# Altium footprint library PCB1.PcbLib: 55 footprints (part 1 of 4)
Each footprint in its own frame and in the unit in brackets; x right, y up, seen from the top. Pads: shape width x height; smd on the part's side, far side on the other; paste and mask are expansions set on the pad; w line width, h text height; cw(c..) or ccw(c..) is an arc to the next point about the centre after c.
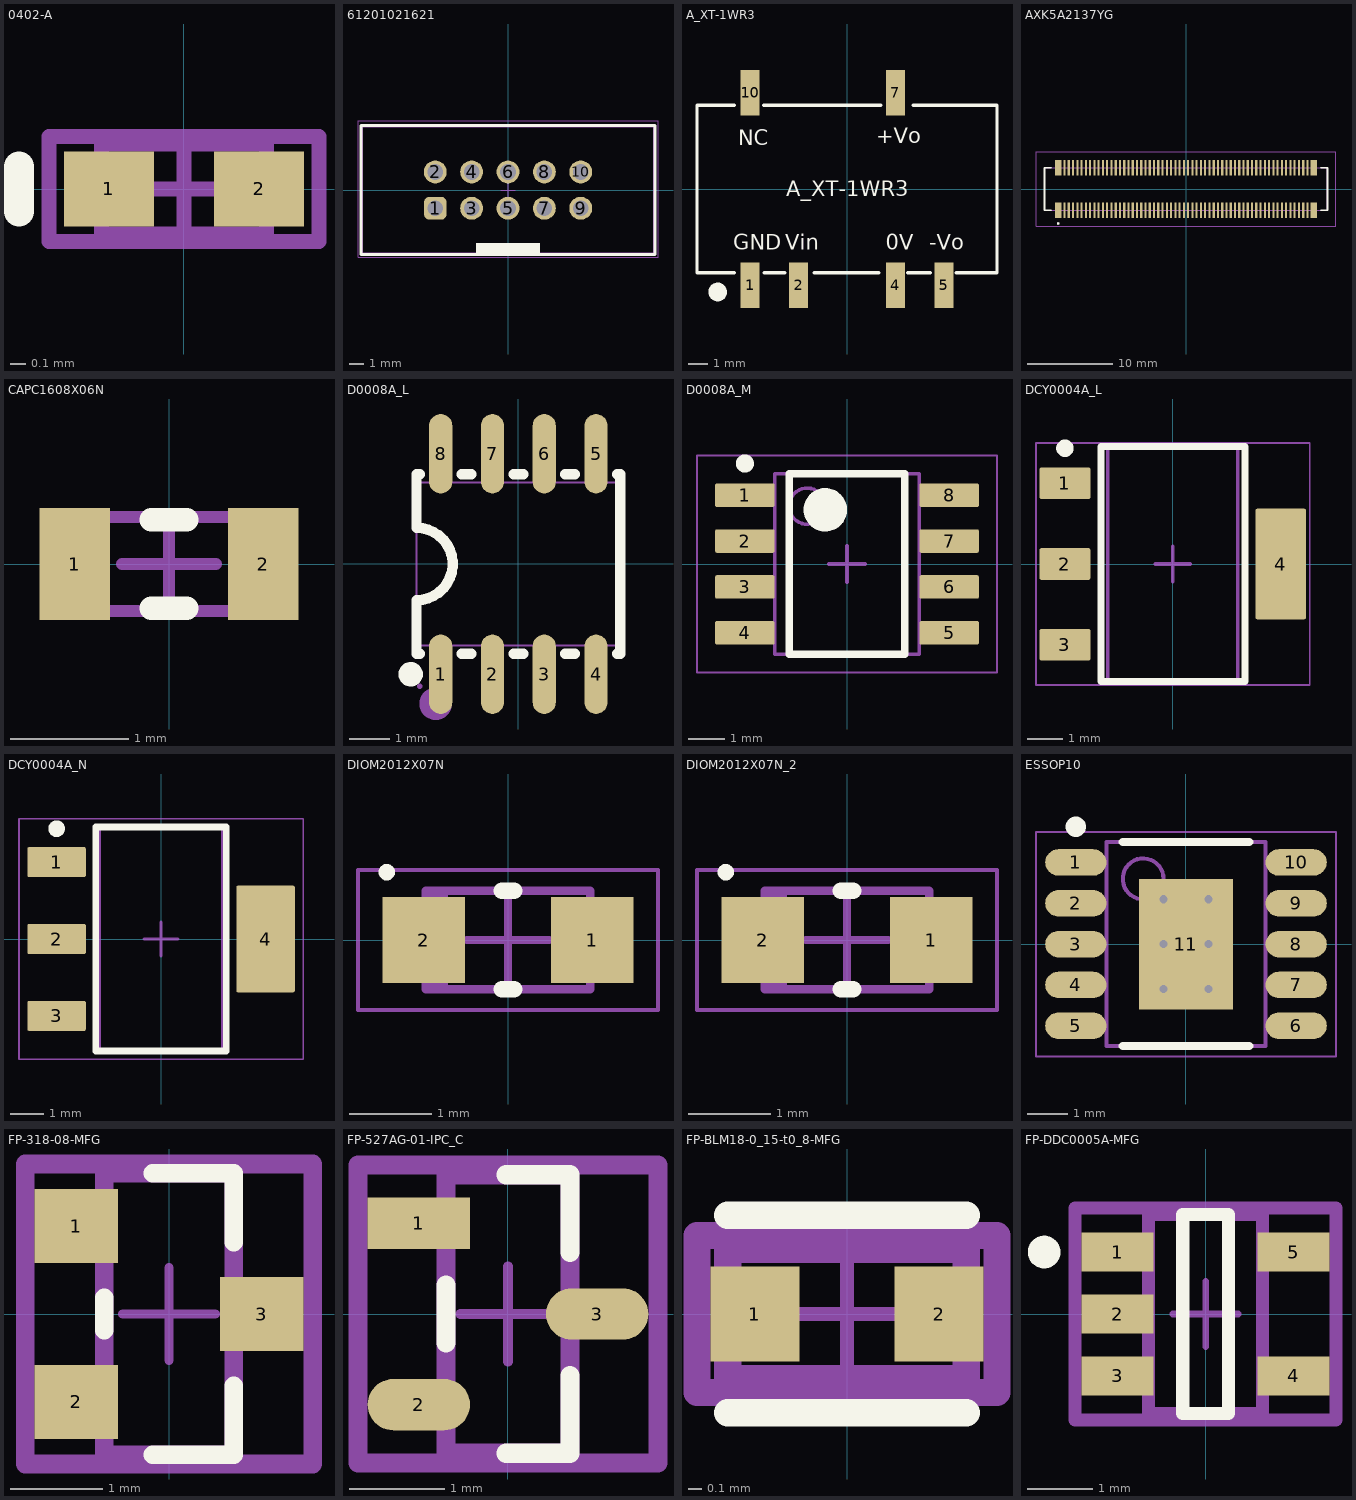
[diagram p0: the footprints below, top view; thin cyan lines are the x and y axes]

## 0402-A [mm] "Chip Inductor, Body 1.0x0.5mm, IPC High Density"
height 0.55
pads (2):
  rect 0.6x0.5 smd: 1(-0.5,0) 2(0.5,0)
Top Overlay:
  lines w0.2: -1.1,-0.15 -1.1,0.15
Mechanical 13:
  lines w0.1: -0.55,-0.3 0.55,-0.3 0.55,0.3 -0.55,0.3 -0.55,-0.3
Mechanical 15:
  lines w0.1: -0.3,0 0.3,0 ; 0,-0.3 0,0.3 ; -0.9,-0.35 0.9,-0.35 0.9,0.35 -0.9,0.35 -0.9,-0.35
3D body: height 0.55, standoff 0, extent -0.55,-0.3 0.55,0.3

## 61201021621 [mm] "10 pins, straight, gold plating"
height 9.1
pads (10):
  rrect50% 1.6x1.6 hole 1.1: 1(-5.08,-1.27)
  round 1.6 hole 1.1: 2(-5.08,1.27) 3(-2.54,-1.27) 4(-2.54,1.27) 5(0,-1.27) 6(0,1.27) 7(2.54,-1.27) 8(2.54,1.27) 9(5.08,-1.27) 10(5.08,1.27)
Top Overlay:
  rectangle: -2.25,-4.5 2.25,-3.7
  lines w0.2: -10.28,-4.5 10.28,-4.5 10.28,4.5 -10.28,4.5 -10.28,-4.5
Top 3D Body:
  rectangle: -2.25,-4.425 2.25,-3.7
  lines w0.1: -10.18,-4.425 10.18,-4.425 10.18,4.425 -10.18,4.425 -10.18,-4.425
Top Courtyard:
  lines w0.05: -0.5,0 0.5,0 ; 0,-0.5 0,0.5 ; -10.48,-4.7 10.48,-4.7 10.48,4.85 -10.48,4.85 -10.48,-4.7
Top Designator:
  text ".Designator" at -7.498,-0.5 h1.5
Top Component Outline:
  rectangle: -2.25,-4.425 2.25,-3.7
  lines w0.1: -10.18,-4.425 -10.18,4.425 10.18,4.425 10.18,-4.425 -10.18,-4.425
3D body "61201021621.stp": height 9.13, standoff -2.98, extent -10.18,-4.425 10.18,4.75

## A_XT-1WR3 [mm]
pads (6):
  rect 1x2.4 smd: 1(-5.08,-5.05) 2(-2.54,-5.05) 4(2.54,-5.05) 5(5.08,-5.05) 7(2.54,5.05) 10(-5.08,5.05)
Top Overlay:
  lines w0.178: -7.87,-4.4 -7.87,4.4 ; -7.827,-4.4 -5.912,-4.4 ; -7.827,4.4 -5.912,4.4 ; -4.369,4.4 1.778,4.4 ; -4.355,-4.4 -3.251,-4.4 ; -1.711,-4.4 1.679,-4.4 ; 3.189,-4.4 4.369,-4.4 ; 3.466,4.4 7.794,4.4 ; 5.724,-4.4 7.87,-4.4 7.87,4.4
  lines w0.508: -6.573,-5.295 ccw(c-6.785,-5.401) -6.549,-5.378
  text "NC" at -5.715,2.286 h0.8
  text "+Vo" at 1.524,2.413 h0.8
  text "-Vo" at 4.318,-3.175 h0.8
  text "0V" at 2.032,-3.175 h0.8
  text "GND" at -5.969,-3.175 h0.8
  text "Vin" at -3.251,-3.175 h0.8
  text "A_XT-1WR3" at -3.175,-0.381 h0.8

## AXK5A2137YG [mm]
pads (120):
  rect 0.75x1.8 smd: 1(-15,-2.5) 2(-15,2.5) 119(15,-2.5) 120(15,2.5)
  rect 0.25x1.8 smd: 3(-14.25,-2.5) 4(-14.25,2.5) 5(-13.75,-2.5) 6(-13.75,2.5) 7(-13.25,-2.5) 8(-13.25,2.5) 9(-12.75,-2.5) 10(-12.75,2.5) 11(-12.25,-2.5) 12(-12.25,2.5) 13(-11.75,-2.5) 14(-11.75,2.5) 15(-11.25,-2.5) 16(-11.25,2.5) 17(-10.75,-2.5) 18(-10.75,2.5) 19(-10.25,-2.5) 20(-10.25,2.5) 21(-9.75,-2.5) 22(-9.75,2.5) 23(-9.25,-2.5) 24(-9.25,2.5) 25(-8.75,-2.5) 26(-8.75,2.5) 27(-8.25,-2.5) 28(-8.25,2.5) 29(-7.75,-2.5) 30(-7.75,2.5) 31(-7.25,-2.5) 32(-7.25,2.5) 33(-6.75,-2.5) 34(-6.75,2.5) 35(-6.25,-2.5) 36(-6.25,2.5) 37(-5.75,-2.5) 38(-5.75,2.5) 39(-5.25,-2.5) 40(-5.25,2.5) 41(-4.75,-2.5) 42(-4.75,2.5) 43(-4.25,-2.5) 44(-4.25,2.5) 45(-3.75,-2.5) 46(-3.75,2.5) 47(-3.25,-2.5) 48(-3.25,2.5) 49(-2.75,-2.5) 50(-2.75,2.5) 51(-2.25,-2.5) 52(-2.25,2.5) 53(-1.75,-2.5) 54(-1.75,2.5) 55(-1.25,-2.5) 56(-1.25,2.5) 57(-0.75,-2.5) 58(-0.75,2.5) 59(-0.25,-2.5) 60(-0.25,2.5) 61(0.25,-2.5) 62(0.25,2.5) 63(0.75,-2.5) 64(0.75,2.5) 65(1.25,-2.5) 66(1.25,2.5) 67(1.75,-2.5) 68(1.75,2.5) 69(2.25,-2.5) 70(2.25,2.5) 71(2.75,-2.5) 72(2.75,2.5) 73(3.25,-2.5) 74(3.25,2.5) 75(3.75,-2.5) 76(3.75,2.5) 77(4.25,-2.5) 78(4.25,2.5) 79(4.75,-2.5) 80(4.75,2.5) 81(5.25,-2.5) 82(5.25,2.5) 83(5.75,-2.5) 84(5.75,2.5) 85(6.25,-2.5) 86(6.25,2.5) 87(6.75,-2.5) 88(6.75,2.5) 89(7.25,-2.5) 90(7.25,2.5) 91(7.75,-2.5) 92(7.75,2.5) 93(8.25,-2.5) 94(8.25,2.5) 95(8.75,-2.5) 96(8.75,2.5) 97(9.25,-2.5) 98(9.25,2.5) 99(9.75,-2.5) 100(9.75,2.5) 101(10.25,-2.5) 102(10.25,2.5) 103(10.75,-2.5) 104(10.75,2.5) 105(11.25,-2.5) 106(11.25,2.5) 107(11.75,-2.5) 108(11.75,2.5) 109(12.25,-2.5) 110(12.25,2.5) 111(12.75,-2.5) 112(12.75,2.5) 113(13.25,-2.5) 114(13.25,2.5) 115(13.75,-2.5) 116(13.75,2.5) 117(14.25,-2.5) 118(14.25,2.5)
Top Overlay:
  lines w0.2: -15.8,-2.5 -16.6,-2.5 -16.6,2.5 -15.8,2.5 ; 15.8,-2.5 16.6,-2.5 16.6,2.5 15.8,2.5 ; -15,-4.1 ccw(c-15,-4.05) -15,-4 ; -15,-4.1 cw(c-15,-4.05) -15,-4 ; -15,-4.1 ccw(c-15,-4.05) -15,-4
Mechanical 15:
  lines w0.1: -16.6,-2.5 -16.6,2.5 16.6,2.5 16.6,-2.5 -16.6,-2.5
Bottom Assembly:
  lines w0.1: -17.6,-4.4 -17.6,4.4 17.6,4.4 17.6,-4.4 -17.6,-4.4

## CAPC1608X06N [mm] "Chip Capacitor, 2-Leads, Body 1.60x0.80mm, IPC Medium Density"
height 0.6
pads (2):
  rect 0.6x0.95 smd: 1(-0.8,0) 2(0.8,0)
Top Overlay:
  lines w0.2: -0.15,-0.375 0.15,-0.375 ; -0.15,0.375 0.15,0.375
Mechanical 13:
  lines w0.1: -0.8,-0.4 0.8,-0.4 0.8,0.4 -0.8,0.4 -0.8,-0.4
Mechanical 15:
  lines w0.1: -0.4,0 0.4,0 ; 0,-0.4 0,0.4
3D body "CAPC1608X06N.step": height 0.6, standoff 0, extent -0.8,-0.4 0.8,0.4

## D0008A_L [mil]
height 100
pads (8):
  oval 22.38x76.78 smd: 1(-75,-106.5) 2(-25,-106.5) 3(25,-106.5) 4(75,-106.5) 5(75,106.5) 6(25,106.5) 7(-25,106.5) 8(-75,106.5)
Top Overlay:
  circle w11.81: c-104,-106.5 r5.91
  lines w10: -98.43,-35 ccw(c-98.41,0) -98.4,35 -98.42,86.61 -95.29,86.61 ; -98.42,-35 -98.42,-86.61 -95.29,-86.61 ; -54.71,-86.61 -45.29,-86.61 ; -54.71,86.61 -45.29,86.61 ; -4.71,-86.61 4.71,-86.61 ; -4.71,86.61 4.71,86.61 ; 45.29,-86.61 54.71,-86.61 ; 45.29,86.61 54.71,86.61 ; 95.29,-86.61 98.42,-86.61 98.42,86.61 95.29,86.61
Bottom Designator:
  circle w15.75: c-80,-135 r7.87
Mechanical 15:
  region: 66.93,76.38 66.93,85.63 83.07,85.63 83.07,76.38
  region: 66.93,85.24 66.93,118.11 83.07,118.11 83.07,85.24
  region: 16.93,76.38 16.93,85.63 33.07,85.63 33.07,76.38
  region: 16.93,85.24 16.93,118.11 33.07,118.11 33.07,85.24
  region: -33.07,76.38 -33.07,85.63 -16.93,85.63 -16.93,76.38
  region: -33.07,85.24 -33.07,118.11 -16.93,118.11 -16.93,85.24
  region: -83.07,76.38 -83.07,85.63 -66.93,85.63 -66.93,76.38
  region: -83.07,85.24 -83.07,118.11 -66.93,118.11 -66.93,85.24
  region: 66.93,-85.63 66.93,-76.38 83.07,-76.38 83.07,-85.63
  region: 66.93,-118.11 66.93,-85.24 83.07,-85.24 83.07,-118.11
  region: 16.93,-85.63 16.93,-76.38 33.07,-76.38 33.07,-85.63
  region: 16.93,-118.11 16.93,-85.24 33.07,-85.24 33.07,-118.11
  region: -33.07,-85.63 -33.07,-76.38 -16.93,-76.38 -16.93,-85.63
  region: -33.07,-118.11 -33.07,-85.24 -16.93,-85.24 -16.93,-118.11
  region: -83.07,-85.63 -83.07,-76.38 -66.93,-76.38 -66.93,-85.63
  region: -83.07,-118.11 -83.07,-85.24 -66.93,-85.24 -66.93,-118.11
  region: -92.92,-118.11 -92.92,-117.14 -94.3,-115.75 -96.26,-115.75 -97.64,-117.14 -97.64,-118.11 -97.64,-119.09 -96.26,-120.47 -94.3,-120.47 -92.92,-119.09
  lines w2: -98.43,-78.74 98.42,-78.74 98.42,78.74 -98.43,78.74 -98.43,-78.74

## D0008A_M [mm] "SOIC, 8-Leads, Body 5x4mm, Pitch 1.27mm, IPC Low Density"
height 1.75
pads (8):
  rrect15% 1.65x0.65 smd: 1(-2.825,1.905) 2(-2.825,0.635) 3(-2.825,-0.635) 4(-2.825,-1.905) 5(2.825,-1.905) 6(2.825,-0.635) 7(2.825,0.635) 8(2.825,1.905)
Top Overlay:
  circle w0.25: c-2.825,2.78 r0.125
  circle w0.6: c-0.6,1.5 r0.3
  lines w0.2: -1.6,-2.5 -1.6,2.5 1.6,2.5 1.6,-2.5 -1.6,-2.5
Mechanical 1:
  text ".Designator" at -1.397,-0.254 h0.6
Mechanical 13:
  circle w0.1: c-1.1,1.6 r0.5
  lines w0.1: -2,-2.5 -2,2.5 2,2.5 2,-2.5 -2,-2.5
Mechanical 15:
  lines w0.05: -4.15,-3 -4.15,3 4.15,3 4.15,-3 -4.15,-3
  lines w0.1: -0.5,0 0.5,0 ; 0,-0.5 0,0.5
3D body "SOIC-8akaD0008AakaM08A.stp": height 1.63, standoff 0, extent -3,-2.45 3,2.45

## DCY0004A_L [mm] "SOT223, 4-Leads, Body 6.7x3.7mm, Pitch 2.3mm, IPC High Density"
height 1.8
pads (4):
  rrect11% 1.45x0.9 smd: 1(-3.075,2.3) 2(-3.075,0) 3(-3.075,-2.3)
  rrect7% 1.45x3.15 smd: 4(3.075,0)
Top Overlay:
  circle w0.25: c-3.075,3.3 r0.125
  lines w0.2: -2.05,-3.35 2.05,-3.35 2.05,3.35 -2.05,3.35 -2.05,-3.35
Mechanical 1:
  text ".Designator" at -1.651,-0.381 h0.8
Mechanical 13:
  lines w0.1: -1.85,-3.35 1.85,-3.35 1.85,3.35 -1.85,3.35 -1.85,-3.35
Mechanical 15:
  lines w0.05: -3.9,-3.45 3.9,-3.45 3.9,3.45 -3.9,3.45 -3.9,-3.45
  lines w0.1: -0.5,0 0.5,0 ; 0,-0.5 0,0.5
3D body "SOT-223.stp": height 1.62, standoff -0.03, extent -3.5,-3.25 3.5,3.25

## DCY0004A_N [mm] "SOT223, 4-Leads, Body 6.7x3.7mm, Pitch 2.3mm, IPC Medium Density"
height 1.8
pads (4):
  rrect11% 1.75x0.9 smd: 1(-3.125,2.3) 2(-3.125,0) 3(-3.125,-2.3)
  rrect6% 1.75x3.2 smd: 4(3.125,0)
Top Overlay:
  circle w0.25: c-3.125,3.3 r0.125
  lines w0.2: -1.95,-3.35 1.95,-3.35 1.95,3.35 -1.95,3.35 -1.95,-3.35
Mechanical 1:
  text ".Designator" at -1.651,-0.254 h0.8
Mechanical 13:
  lines w0.1: -1.85,-3.35 1.85,-3.35 1.85,3.35 -1.85,3.35 -1.85,-3.35
Mechanical 15:
  lines w0.05: -4.25,-3.6 4.25,-3.6 4.25,3.6 -4.25,3.6 -4.25,-3.6
  lines w0.1: -0.5,0 0.5,0 ; 0,-0.5 0,0.5
3D body "SOT-223.stp": height 1.62, standoff -0.03, extent -3.5,-3.25 3.5,3.25

## DIOM2012X07N [mm] "Molded Diode, 2-Leads, Body 2.00x1.20mm, IPC Medium Density"
height 0.7
pads (2):
  rect 1x1.05 smd: 1(1.025,0) 2(-1.025,0)
Top Overlay:
  circle w0.1: c-1.475,0.825 r0.05
  lines w0.2: -0.075,-0.6 0.075,-0.6 ; -0.075,0.6 0.075,0.6
Mechanical 13:
  rectangle: -1,-0.6 -0.731,0.6
  lines w0.1: -1,-0.6 1,-0.6 1,0.6 -1,0.6 -1,-0.6
Mechanical 15:
  lines w0.05: -1.825,-0.85 1.825,-0.85 1.825,0.85 -1.825,0.85 -1.825,-0.85
  lines w0.1: -0.5,0 0.5,0 ; 0,-0.5 0,0.5
3D body "DIOM2012X07N.step": height 0.7, standoff 0, extent -1.22,-0.6 1.22,0.6

## DIOM2012X07N_2 [mm]
pads (2):
  rect 1x1.05 smd: 1(1.025,0) 2(-1.025,0)
Top Overlay:
  circle w0.1: c-1.475,0.825 r0.05
  lines w0.2: -0.075,-0.6 0.075,-0.6 ; -0.075,0.6 0.075,0.6
Mechanical 13:
  rectangle: -1,-0.6 -0.731,0.6
  lines w0.1: -1,-0.6 -1,0.6 1,0.6 1,-0.6 -1,-0.6
Mechanical 15:
  lines w0.05: -1.825,-0.85 -1.825,0.85 1.825,0.85 1.825,-0.85 -1.825,-0.85
  lines w0.1: -0.5,0 0.5,0 ; 0,-0.5 0,0.5
3D body "DIOM2012X07N.step": height 0.7, standoff 0, extent -1.22,-0.6 1.22,0.6

## ESSOP10 [mm] "TSOP, 10-Leads, Body 5.00x3.90mm, Pitch 1.00mm, Thermal Pad 3.20x2.30mm, IPC Medium Density"
height 1.5
pads (11):
  oval 1.5x0.65 smd: 1(-2.7,2) 2(-2.7,1) 3(-2.7,0) 4(-2.7,-1) 5(-2.7,-2) 6(2.7,-2) 7(2.7,-1) 8(2.7,0) 9(2.7,1) 10(2.7,2)
  rect 2.3x3.2 smd: 11(0,0)
via 0.55,-1.1 diameter 0.5 hole 0.2
via -0.55,-1.1 diameter 0.5 hole 0.2
via 0.55,0 diameter 0.5 hole 0.2
via -0.55,0 diameter 0.5 hole 0.2
via 0.55,1.1 diameter 0.5 hole 0.2
via -0.55,1.1 diameter 0.5 hole 0.2
Top Overlay:
  circle w0.25: c-2.7,2.875 r0.125
  lines w0.2: -1.55,-2.5 1.55,-2.5 ; -1.55,2.5 1.55,2.5
Mechanical 13:
  circle w0.1: c-1.05,1.6 r0.5
  lines w0.1: -1.95,-2.5 1.95,-2.5 1.95,2.5 -1.95,2.5 -1.95,-2.5
Mechanical 15:
  lines w0.05: -3.675,-2.75 3.675,-2.75 3.675,2.75 -3.675,2.75 -3.675,-2.75
  lines w0.1: -0.5,0 0.5,0 ; 0,-0.5 0,0.5
3D body "TSOP100P600X150_HS-11N.step": height 1.5, standoff 0, extent -3,-2.5 3,2.5

## FP-318-08-MFG [mm]
pads (3):
  rect 0.9x0.8 smd paste+0 mask+0: 1(-1,0.95) 2(-1,-0.95) 3(1,0)
Top Overlay:
  lines w0.2: -0.7,-0.175 -0.7,0.175 ; -0.175,-1.52 0.7,-1.52 0.7,-0.775 ; -0.175,1.52 0.7,1.52 0.7,0.775
Top 3D Body:
  lines w0.2: -0.7,-1.52 -0.7,1.52 0.7,1.52 0.7,-1.52 -0.7,-1.52
Top Courtyard:
  lines w0.2: -1.55,-1.62 -1.55,1.62 1.55,1.62 1.55,-1.62 -1.55,-1.62
Top Assembly:
  lines w0.2: -1.55,-1.62 -1.55,1.62 1.55,1.62 1.55,-1.62 -1.55,-1.62
  text ".Designator" at 0,0 h1
Top Component Center:
  lines w0.1: -0.5,0 0.5,0 ; 0,-0.5 0,0.5
3D body "Diode_ON_Semiconductor_MMBD4148SE_eec.STEP": height 0.25, standoff 0, extent -1.55,-1.62 1.55,1.62

## FP-527AG-01-IPC_C [mm]
pads (3):
  rect 1.075x0.538 smd paste+0 mask+0: 1(-0.935,0.95)
  rrect100% 1.075x0.538 smd paste+0 mask+0: 2(-0.935,-0.95) 3(0.935,0)
Top Overlay:
  lines w0.2: -0.65,-0.306 -0.65,0.306 ; -0.023,-1.46 0.65,-1.46 0.65,-0.644 ; -0.023,1.46 0.65,1.46 0.65,0.644
Top 3D Body:
  lines w0.2: -0.65,-1.46 -0.65,1.46 0.65,1.46 0.65,-1.46 -0.65,-1.46
Top Courtyard:
  lines w0.2: -1.572,-1.56 -1.572,1.56 1.572,1.56 1.572,-1.56 -1.572,-1.56
Top Assembly:
  lines w0.2: -1.572,-1.56 -1.572,1.56 1.572,1.56 1.572,-1.56 -1.572,-1.56
  text ".Designator" at 0,0 h1
Top Component Center:
  lines w0.1: -0.5,0 0.5,0 ; 0,-0.5 0,0.5
3D body "Trans_ON_Semiconductor_NDS355AN_eec.STEP": height 0.25, standoff 0, extent -1.572,-1.56 1.572,1.56

## FP-BLM18-0_15-t0_8-MFG [mm]
pads (2):
  rect 0.65x0.7 smd paste+0 mask+0: 1(-0.675,0) 2(0.675,0)
Top Overlay:
  lines w0.2: -0.875,-0.725 0.875,-0.725 ; -0.875,0.725 0.875,0.725
Top 3D Body:
  lines w0.2: -0.875,-0.475 -0.875,0.475 0.875,0.475 0.875,-0.475 -0.875,-0.475
Top Courtyard:
  lines w0.2: -1.1,-0.575 -1.1,0.575 1.1,0.575 1.1,-0.575 -1.1,-0.575
Top Assembly:
  lines w0.2: -1.1,-0.575 -1.1,0.575 1.1,0.575 1.1,-0.575 -1.1,-0.575
  text ".Designator" at 0,0.188 h1
Top Component Center:
  lines w0.1: -0.5,0 0.5,0 ; 0,-0.5 0,0.5
3D body "FBead_Murata_BLM18EG221SN1D_eec.STEP": height 0.25, standoff 0, extent -1.1,-0.575 1.1,0.575

## FP-DDC0005A-MFG [mm]
pads (5):
  rect 1.1x0.6 smd paste+0 mask+0: 1(-1.35,0.95) 2(-1.35,0) 3(-1.35,-0.95) 4(1.35,-0.95) 5(1.35,0.95)
Top Overlay:
  circle w0.25: c-2.475,0.95 r0.125
  lines w0.2: -0.35,-1.525 -0.35,1.525 0.35,1.525 0.35,-1.525 -0.35,-1.525
Top 3D Body:
  lines w0.2: -0.875,-1.525 -0.875,1.525 0.875,1.525 0.875,-1.525 -0.875,-1.525
Top Courtyard:
  lines w0.2: -2,-1.625 -2,1.625 2,1.625 2,-1.625 -2,-1.625
Top Assembly:
  lines w0.2: -2,-1.625 -2,1.625 2,1.625 2,-1.625 -2,-1.625
  text ".Designator" at 0,0.188 h1
Top Component Center:
  lines w0.1: -0.5,0 0.5,0 ; 0,-0.5 0,0.5
3D body "IC_Texas_Instruments_REF1933AIDDCT_eec.STEP": height 0.25, standoff 0, extent -2,-1.625 2,1.625